# Altium footprint library PCB库.PcbLib: 37 footprints (part 1 of 3)
Each footprint in its own frame and in the unit in brackets; x right, y up, seen from the top. Pads: shape width x height; smd on the part's side, far side on the other; paste and mask are expansions set on the pad; w line width, h text height; cw(c..) or ccw(c..) is an arc to the next point about the centre after c.
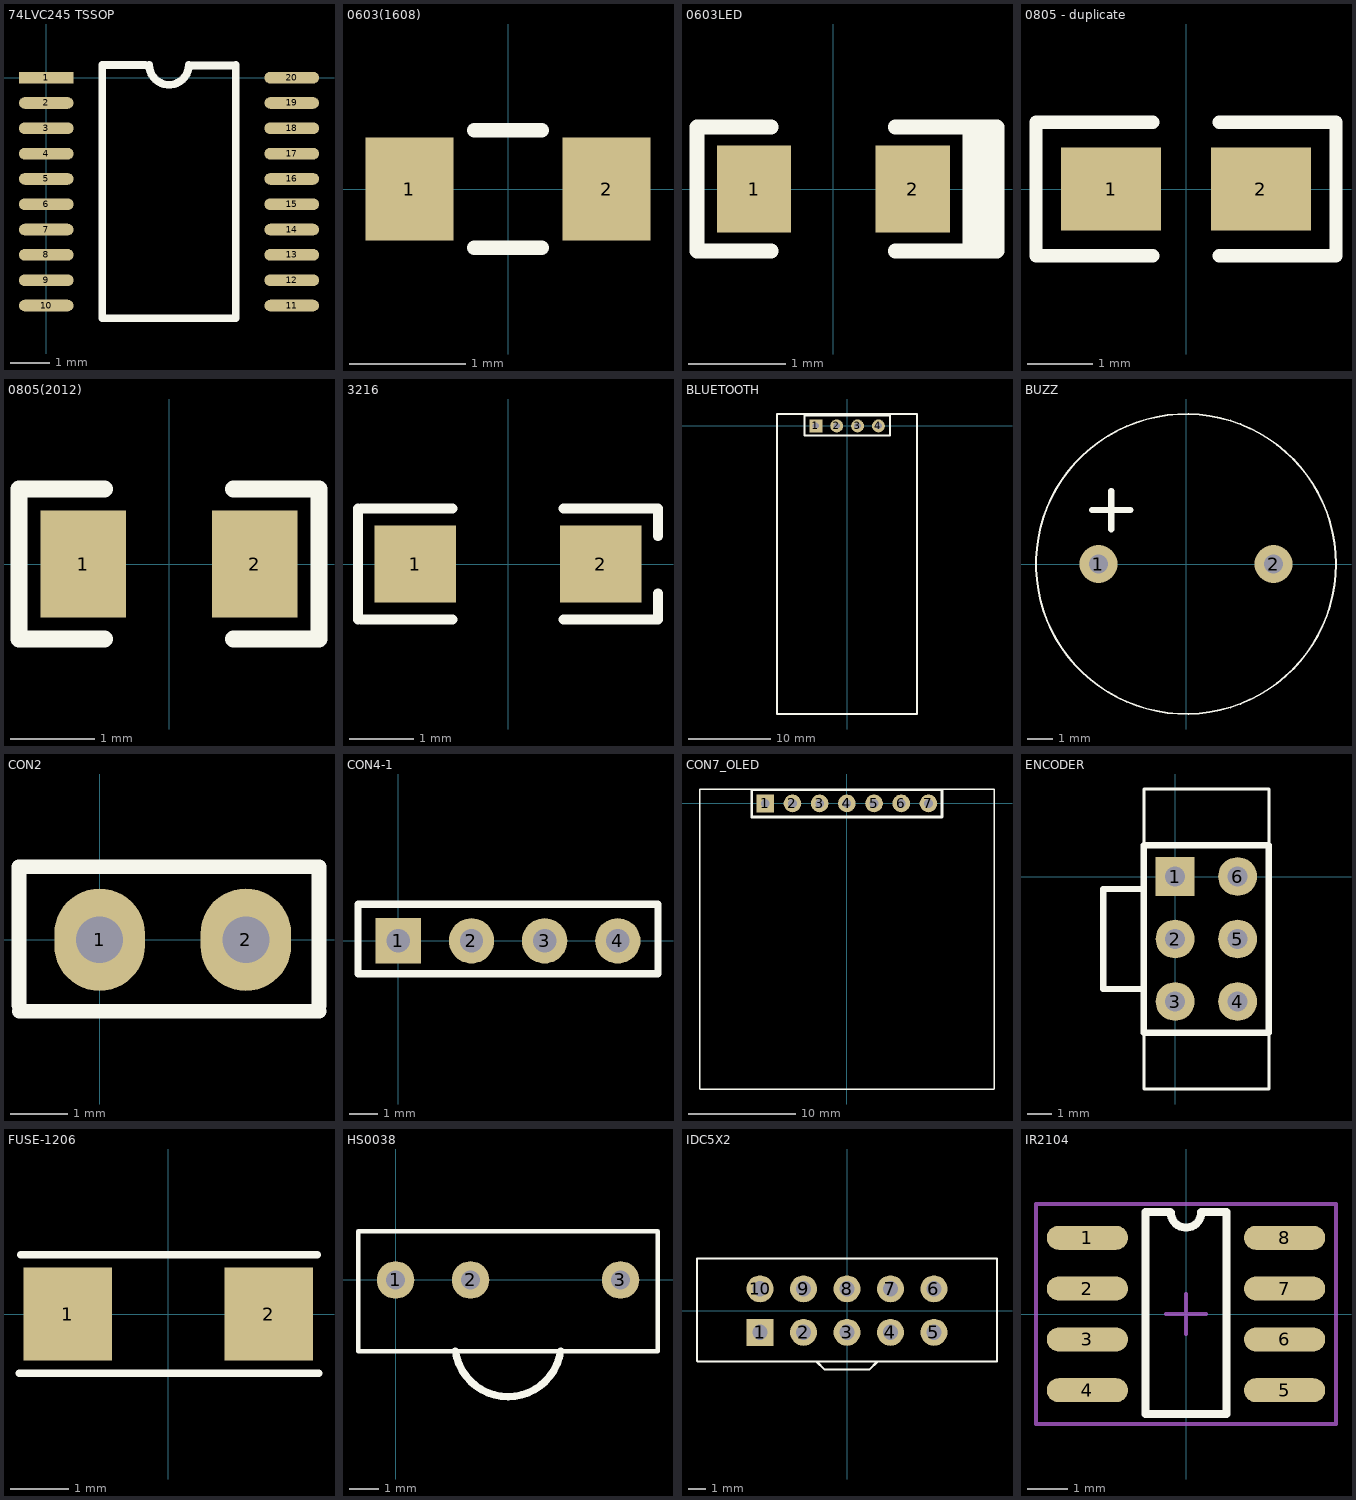
[diagram p0: the footprints below, top view; thin cyan lines are the x and y axes]

## 74LVC245 TSSOP [mm]
pads (20):
  rect 1.4x0.3 smd: 1(0,0)
  oval 1.4x0.3 smd: 2(0,-0.65) 3(0,-1.3) 4(0,-1.95) 5(0,-2.6) 6(0,-3.25) 7(0,-3.9) 8(0,-4.55) 9(0,-5.2) 10(0,-5.85) 11(6.3,-5.85) 12(6.3,-5.2) 13(6.3,-4.55) 14(6.3,-3.9) 15(6.3,-3.25) 16(6.3,-2.6) 17(6.3,-1.95) 18(6.3,-1.3) 19(6.3,-0.65) 20(6.3,0)
Top Overlay:
  lines w0.2: 2.54,0.325 1.435,0.325 1.435,-6.175 4.865,-6.175 4.865,0.325 ; 2.642,0.325 ccw(c3.15,0.325) 3.658,0.325 ; 3.683,0.31 4.788,0.31

## 0603(1608) [mil]
pads (2):
  rect 30x35 smd: 1(-33.5,0) 2(33.5,0)
Top Overlay:
  lines w5: -11.5,-20 11.5,-20 ; -11.5,20 11.5,20

## 0603LED [mil]
pads (2):
  rect 30x35 smd: 1(-32,0) 2(32,0)
Top Overlay:
  lines w5.91: -25,-25 -55,-25 -55,25 -25,25 ; 25,25 66,25 66,-25 25,-25 55,-25 55,25 ; 61,-25 61,25
  lines w10: 58,-20 58,17

## 0805 - duplicate [mil]
pads (2):
  rect 60x50 smd: 1(-45,0) 2(45,0)
Top Overlay:
  lines w8: -20,-40 -90,-40 -90,40 -20,40 ; 20,-40 90,-40 90,40 20,40

## 0805(2012) [mil]
pads (2):
  rect 40x50 smd: 1(-40,0) 2(40,0)
Top Overlay:
  lines w7.87: -70,-35 -30,-35 ; -70,35 -30,35 ; 30,-35 70,-35 ; 30,35 70,35
  lines w8: -70,-35 -70,35 ; 70,-35 70,35

## 3216 [mm]
pads (2):
  rect 1.27x1.2 smd: 1(-1.448,0) 2(1.448,0)
Top Overlay:
  lines w0.152: -2.337,-0.864 -2.337,0.864 ; -2.286,-0.864 -0.864,-0.864 ; -2.286,0.864 -0.864,0.864 ; 0.864,-0.864 2.337,-0.864 2.337,-0.457 ; 0.864,0.864 2.337,0.864 2.337,0.432

## BLUETOOTH [mil]
pads (4):
  rect 62x62 hole 32: 1(-150,0)
  round 62 hole 32: 2(-50,0) 3(50,0) 4(150,0)
Top Overlay:
  lines w10: -150,50 -205,50 -205.12,49.88 -205.12,0 -205.12,-44.88 -205,-45 205,-45 205,50 -148.82,50 ; -335.29,-1380.01 334,-1380.01 334,57 -335.29,57 -335.29,-1380.01

## BUZZ [mil]
pads (2):
  round 60 hole 30: 1(-137.8,0) 2(137.8,0)
Top Overlay:
  circle w3: c0,0 r236.22
  lines w10: -147.8,85 -87.8,85 ; -117.8,55 -117.8,115

## CON2 [mil]
pads (2):
  oval 62x70 hole 32: 1(0,0) 2(100,0)
Top Overlay:
  lines w10: -55,-49 150,-49 ; -55,-45 -55.12,-44.88 -55.12,0 -55.12,49.88 -55,50 0,50 ; 1.18,50 150,50 150,-45

## CON4-1 [mil]
pads (4):
  rect 62x62 hole 32: 1(0,0)
  round 62 hole 32: 2(100,0) 3(200,0) 4(300,0)
Top Overlay:
  lines w10: 0,50 -55,50 -55.12,49.88 -55.12,0 -55.12,-44.88 -55,-45 355,-45 355,50 1.18,50

## CON7_OLED [mil]
pads (7):
  rect 65x65 hole 32: 1(-300,0)
  round 65 hole 32: 2(-200,0) 3(-100,0) 4(0,0) 5(100,0) 6(200,0) 7(300,0)
Top Overlay:
  lines w5: -541,-1050 541.68,-1050 ; -541,-1049.36 -541,53 541.68,53 ; 542,-1049.36 542,53
  lines w10: -350,-50 350,-50 350,50 -350,50 -350,-50

## ENCODER [mil]
pads (6):
  rect 62x62 hole 32: 1(0,0)
  round 62 hole 32: 2(0,-100) 3(0,-200) 4(100,-200) 5(100,-100) 6(100,0)
Top Overlay:
  lines w5: -50,-250 -50,-340 150,-340 150,-250 ; -50,50 -50,140 150,140 150,50
  lines w10: -50,-180 -115,-180 -115,-20 -50,-20 ; -50,-250 -50,50 150,50 150,-250 -50,-250

## FUSE-1206 [mm]
pads (2):
  rect 1.52x1.6 smd: 1(-1.727,0) 2(1.727,0)
Top Overlay:
  lines w0.127: -2.565,-1.016 2.591,-1.016 ; -2.54,1.016 2.565,1.016

## HS0038 [mm]
pads (3):
  round 1.27 hole 0.635: 1(0,0) 2(2.54,0) 3(7.62,0)
Top Overlay:
  lines w0.152: -1.27,-2.413 8.89,-2.413 8.89,1.651 -1.27,1.651 -1.27,-2.413
  lines w0.254: 2.032,-2.413 ccw(c3.81,-2.159) 5.588,-2.413

## IDC5X2 [mil]
pads (10):
  rect 62x62 hole 35: 1(-200,-50)
  round 62 hole 35: 2(-100,-50) 3(0,-50) 4(100,-50) 5(200,-50) 6(200,50) 7(100,50) 8(0,50) 9(-100,50) 10(-200,50)
Top Overlay:
  lines w5: -345,-116.22 -345,120 ; -344,-117 345,-117 345,120 -344,120 ; -70,-117 -51.09,-135.91 0,-135.91 51.09,-135.91 70,-117

## IR2104 [mil]
pads (8):
  oval 80x23.62 smd: 1(-97,75) 2(-97,25) 3(-97,-25) 4(-97,-75) 5(97,-75) 6(97,-25) 7(97,25) 8(97,75)
Top Overlay:
  lines w7.87: -40,100.39 -40,-98.43 40,-98.43 40,100.39
  lines w8: -40,100.39 -15.55,100.39 ; -15,100 ccw(c0,100) 15,100 ; 15,100.39 40,100.39
Mechanical 15:
  lines w3.94: -19.68,0 19.69,0 ; 0,-19.68 0,19.69 ; -147.64,-108.27 -147.64,108.27 147.64,108.27 147.64,-108.27 -147.64,-108.27